# Altium schematic symbol library Term,Block,Side Entry,5.08mm.Schlib: 1 symbol
Pins are listed as number, name and electrical type; pins without a type are passive.

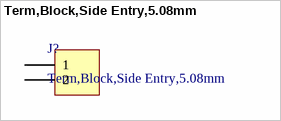
[diagram p0: symbol Term,Block,Side Entry,5.08mm]

## Term,Block,Side Entry,5.08mm
designator J?
TERM BLK 2P SIDE ENT 5.08MM PCB
pins: 1, 2